# Altium schematic symbol library Schematic Library.SchLib: 19 symbols
Pins are listed as number, name and electrical type; pins without a type are passive.

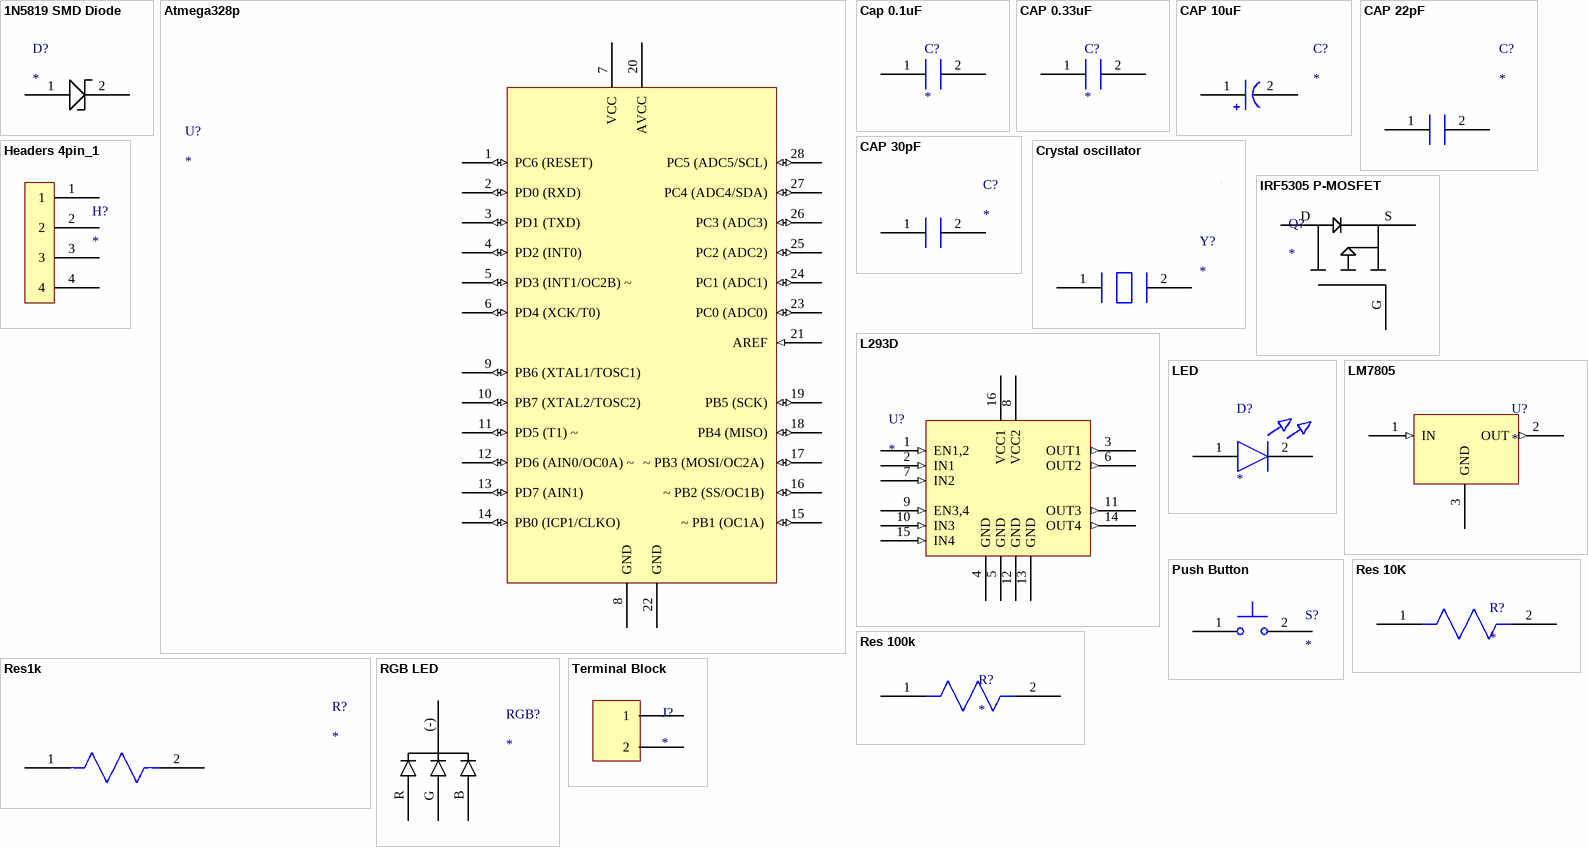
[diagram p0: symbols 1N5819 SMD Diode to Terminal Block]

## 1N5819 SMD Diode
designator D?
footprint 1N5819 SMD Diode
pins: 1, 2

## Atmega328p
designator U?
footprint ATMega 328 P-PU - duplicate
footprint ATMega 328 P-PU - duplicate
pins: 1 PC6 (RESET) (io), 2 PD0 (RXD) (io), 3 PD1 (TXD) (io), 4 PD2 (INT0) (io), 5 PD3 (INT1/OC2B) ~ (io), 6 PD4 (XCK/T0) (io), 7 VCC, 8 GND, 9 PB6 (XTAL1/TOSC1) (io), 10 PB7 (XTAL2/TOSC2) (io), 11 PD5 (T1) ~ (io), 12 PD6 (AIN0/OC0A) ~ (io), 13 PD7 (AIN1) (io), 14 PB0 (ICP1/CLKO) (io), 15 ~ PB1 (OC1A)  (io), 16 ~ PB2 (SS/OC1B)  (io), 17 ~ PB3 (MOSI/OC2A)  (io), 18 PB4 (MISO) (io), 19 PB5 (SCK) (io), 20 AVCC, 21 AREF (in), 22 GND, 23 PC0 (ADC0) (io), 24 PC1 (ADC1) (io), 25 PC2 (ADC2) (io), 26 PC3 (ADC3) (io), 27 PC4 (ADC4/SDA) (io), 28 PC5 (ADC5/SCL) (io)

## Cap 0.1uF
designator C?
pins: 1, 2

## CAP 0.33uF
designator C?
pins: 1, 2

## CAP 10uF
designator C?
footprint Cap 10uF
pins: 1, 2

## CAP 22pF
designator C?
footprint Cap 22pF
footprint Cap 22pF
pins: 1, 2

## CAP 30pF
designator C?
pins: 1, 2

## Crystal oscillator
designator Y?
footprint Crrystal 16MHZ
footprint Crrystal 16MHZ
pins: 1, 2

## Headers 4pin_1
designator H?
footprint Header 4pin
pins: 1, 2, 3, 4

## IRF5305 P-MOSFET
designator Q?
footprint IRF5305
pins: D 3, G 1, S 2

## L293D
designator U?
footprint L293D
pins: 1 EN1,2 (in), 2 IN1 (in), 3 OUT1 (out), 4 GND (power), 5 GND (power), 6 OUT2 (out), 7 IN2 (in), 8 VCC2 (power), 9 EN3,4 (in), 10 IN3 (in), 11 OUT3 (out), 12 GND (power), 13 GND (power), 14 OUT4 (out), 15 IN4 (in), 16 VCC1 (power)

## LED
designator D?
footprint LED
pins: 1 7, 2 6

## LM7805
designator U?
footprint LM7805
footprint LM7805
pins: 1 IN (in), 2 OUT (out), 3 GND (power)

## Push Button
designator S?
footprint Push Button
footprint Push Button
pins: 1 76, 2 77

## Res1k
designator R?
footprint Res 1K
pins: 1 3, 2 4

## Res 10K
designator R?
footprint Res10K
pins: 1 3, 2 4

## Res 100k
designator R?
footprint Res100K
pins: 1 3, 2 4

## RGB LED
designator RGB?
footprint RGB LED
pins: (-) 1, B 4, G 3, R 2

## Terminal Block
designator J?
footprint Terminal Block 2pin
footprint Terminal Block 2pin
pins: 1, 2